# EAGLE library part DEC-FLIPCHIP (library con-dec)
DEC Flip-Chip single card fingers
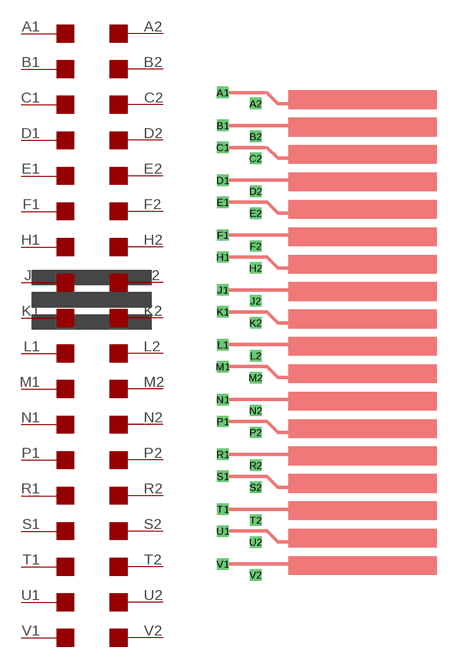
[diagram p0: symbol with the pads of DEC-FLIPCHIP; footprint DEC-FLIPCHIP]

Designator prefix -

## DEC-FLIPCHIP  [DEC-FLIPCHIP]
A1  A1  pas
A2  A2  pas
B1  B1  pas
B2  B2  pas
C1  C1  pas
C2  C2  pas
D1  D1  pas
D2  D2  pas
E1  E1  pas
E2  E2  pas
F1  F1  pas
F2  F2  pas
H1  H1  pas
H2  H2  pas
J1  J1  pas
J2  J2  pas
K1  K1  pas
K2  K2  pas
L1  L1  pas
L2  L2  pas
M1  M1  pas
M2  M2  pas
N1  N1  pas
N2  N2  pas
P1  P1  pas
P2  P2  pas
R1  R1  pas
R2  R2  pas
S1  S1  pas
S2  S2  pas
T1  T1  pas
T2  T2  pas
U1  U1  pas
U2  U2  pas
V1  V1  pas
V2  V2  pas

## DEC-FLIPCHIPONE-SIDED  [DEC-FLIPCHIP]
A2  A2  pas
B2  B2  pas
C2  C2  pas
D2  D2  pas
E2  E2  pas
F2  F2  pas
H2  H2  pas
J2  J2  pas
K2  K2  pas
L2  L2  pas
M2  M2  pas
N2  N2  pas
P2  P2  pas
R2  R2  pas
S2  S2  pas
T2  T2  pas
U2  U2  pas
V2  V2  pas

## Footprint DEC-FLIPCHIP (pad centres in mm)
Single Flip Chip fingers
drill 0.813 square: A1 -7.62,27.94; A2 -3.81,26.67; B1 -7.62,24.13; B2 -3.81,22.86; C1 -7.62,21.59; C2 -3.81,20.32; D1 -7.62,17.78; D2 -3.81,16.51; E1 -7.62,15.24; E2 -3.81,13.97; F1 -7.62,11.43; F2 -3.81,10.16; H1 -7.62,8.89; H2 -3.81,7.62; J1 -7.62,5.08; J2 -3.81,3.81; K1 -7.62,2.54; K2 -3.81,1.27; L1 -7.62,-1.27; L2 -3.81,-2.54; M1 -7.62,-3.81; M2 -3.81,-5.08; N1 -7.62,-7.62; N2 -3.81,-8.89; P1 -7.62,-10.16; P2 -3.81,-11.43; R1 -7.62,-13.97; R2 -3.81,-15.24; S1 -7.62,-16.51; S2 -3.81,-17.78; T1 -7.62,-20.32; T2 -3.81,-21.59; U1 -7.62,-22.86; U2 -3.81,-24.13; V1 -7.62,-26.67; V2 -3.81,-27.94